# Altium schematic symbol library Конденсаторы керамические.SchLib: 2 symbols
Pins are listed as number, name and electrical type; pins without a type are passive.

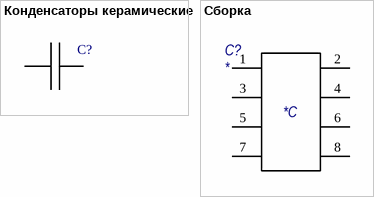
[diagram p0: symbols Конденсаторы керамические to Сборка]

## Конденсаторы керамические
designator C?
pins: 1, 2

## Сборка
designator C?
pins: 1, 2, 3, 4, 5, 6, 7, 8
text: *С